# Altium footprint library Package_SO.PcbLib: 393 footprints (part 7 of 25)
Each footprint in its own frame and in the unit in brackets; x right, y up, seen from the top. Pads: shape width x height; smd on the part's side, far side on the other; paste and mask are expansions set on the pad; w line width, h text height; cw(c..) or ccw(c..) is an arc to the next point about the centre after c.
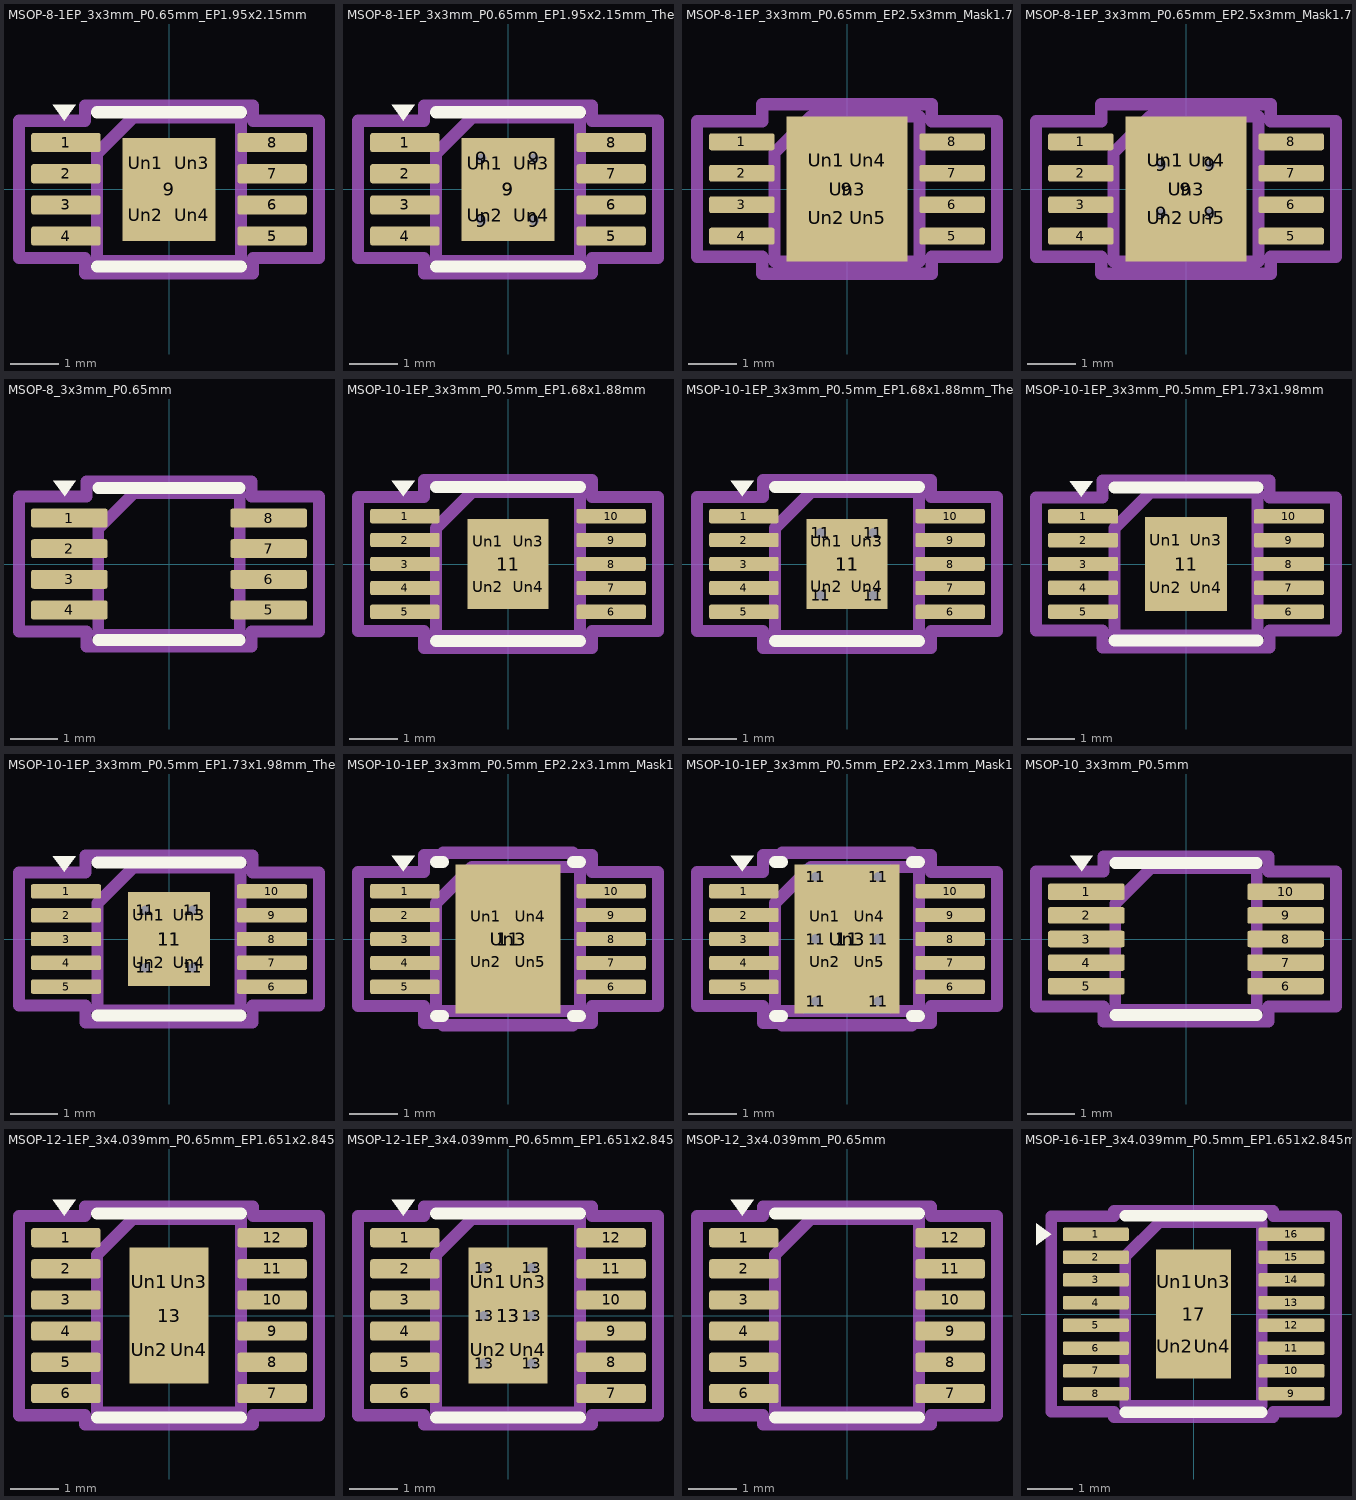
[diagram p6: the footprints below, top view; thin cyan lines are the x and y axes]

## MSOP-8-1EP_3x3mm_P0.65mm_EP1.95x2.15mm [mm]
pads (13):
  rrect25% 1.45x0.4 smd: 1(-2.15,0.975) 2(-2.15,0.325) 3(-2.15,-0.325) 4(-2.15,-0.975) 5(2.15,-0.975) 6(2.15,-0.325) 7(2.15,0.325) 8(2.15,0.975)
  rect 1.95x2.15 smd: 9(0,0)
  rrect25% 0.79x0.87 on Top Paste: Un1(-0.49,0.54) Un2(-0.49,-0.54) Un3(0.49,0.54) Un4(0.49,-0.54)
F.SilkS:
  region: -2.187,1.435 -2.428,1.765 -1.947,1.765
  lines w0.254: -1.5,-1.61 0,-1.61 1.5,-1.61 ; -1.5,1.61 0,1.61 1.5,1.61
Top Assembly:
  lines w0.254: -1.5,-1.5 1.5,-1.5 1.5,1.5 -0.75,1.5 -1.5,0.75 -1.5,-1.5
  text "'.Designator'" at -3.033,-0.628 h0.75
Top Courtyard:
  lines w0.254: -3.13,-1.43 -1.75,-1.43 -1.75,-1.75 1.75,-1.75 1.75,-1.43 3.13,-1.43 3.13,1.43 1.75,1.43 1.75,1.75 -1.75,1.75 -1.75,1.43 -3.13,1.43 -3.13,-1.43
Top Designator:
  text ".Designator" at -7.618,-0.508 h1.52

## MSOP-8-1EP_3x3mm_P0.65mm_EP1.95x2.15mm_ThermalVias [mm]
pads (18):
  rrect25% 1.45x0.4 smd: 1(-2.15,0.975) 2(-2.15,0.325) 3(-2.15,-0.325) 4(-2.15,-0.975) 5(2.15,-0.975) 6(2.15,-0.325) 7(2.15,0.325) 8(2.15,0.975)
  round 0.5 hole 0.2: 9(-0.55,-0.65) 9(-0.55,0.65) 9(0.55,-0.65) 9(0.55,0.65)
  rect 1.95x2.15 smd: 9(0,0)
  rect 1.6x1.8 smd far side: 9(0,0)
  rrect25% 0.82x0.9 on Top Paste: Un1(-0.49,0.54) Un2(-0.49,-0.54) Un3(0.49,0.54) Un4(0.49,-0.54)
F.SilkS:
  region: -2.187,1.435 -2.428,1.765 -1.947,1.765
  lines w0.254: -1.5,-1.61 0,-1.61 1.5,-1.61 ; -1.5,1.61 0,1.61 1.5,1.61
Top Assembly:
  lines w0.254: -1.5,-1.5 1.5,-1.5 1.5,1.5 -0.75,1.5 -1.5,0.75 -1.5,-1.5
  text "'.Designator'" at -3.033,-0.628 h0.75
Top Courtyard:
  lines w0.254: -3.13,-1.43 -1.75,-1.43 -1.75,-1.75 1.75,-1.75 1.75,-1.43 3.13,-1.43 3.13,1.43 1.75,1.43 1.75,1.75 -1.75,1.75 -1.75,1.43 -3.13,1.43 -3.13,-1.43
Top Designator:
  text ".Designator" at -7.618,-0.508 h1.52

## MSOP-8-1EP_3x3mm_P0.65mm_EP2.5x3mm_Mask1.73x2.36mm [mm]
pads (14):
  rrect25% 1.35x0.35 smd: 1(-2.175,0.975) 2(-2.175,0.325) 3(-2.175,-0.325) 4(-2.175,-0.975) 5(2.175,-0.975) 6(2.175,-0.325) 7(2.175,0.325) 8(2.175,0.975)
  rect 2.5x3 smd: 9(0,0)
  rrect25% 0.7x0.95 on Top Paste: Un1(-0.43,0.59) Un2(-0.43,-0.59) Un4(0.43,0.59) Un5(0.43,-0.59)
  rect 1.73x2.36 on Top Solder: Un3(0,0)
Top Assembly:
  lines w0.254: -1.5,-1.5 1.5,-1.5 1.5,1.5 -0.75,1.5 -1.5,0.75 -1.5,-1.5
  text "'.Designator'" at -3.033,-0.628 h0.75
Top Courtyard:
  lines w0.254: -3.1,-1.4 -1.75,-1.4 -1.75,-1.75 1.75,-1.75 1.75,-1.4 3.1,-1.4 3.1,1.4 1.75,1.4 1.75,1.75 -1.75,1.75 -1.75,1.4 -3.1,1.4 -3.1,-1.4
Top Designator:
  text ".Designator" at -7.618,-0.508 h1.52

## MSOP-8-1EP_3x3mm_P0.65mm_EP2.5x3mm_Mask1.73x2.36mm_ThermalVias [mm]
pads (19):
  rrect25% 1.35x0.35 smd: 1(-2.175,0.975) 2(-2.175,0.325) 3(-2.175,-0.325) 4(-2.175,-0.975) 5(2.175,-0.975) 6(2.175,-0.325) 7(2.175,0.325) 8(2.175,0.975)
  round 0.5 hole 0.2: 9(-0.5,-0.5) 9(-0.5,0.5) 9(0.5,-0.5) 9(0.5,0.5)
  rect 2.5x3 smd: 9(0,0)
  rect 1.5x1.5 smd far side: 9(0,0)
  rrect25% 0.72x0.99 on Top Paste: Un1(-0.43,0.59) Un2(-0.43,-0.59) Un4(0.43,0.59) Un5(0.43,-0.59)
  rect 1.73x2.36 on Top Solder: Un3(0,0)
Top Assembly:
  lines w0.254: -1.5,-1.5 1.5,-1.5 1.5,1.5 -0.75,1.5 -1.5,0.75 -1.5,-1.5
  text "'.Designator'" at -3.033,-0.628 h0.75
Top Courtyard:
  lines w0.254: -3.1,-1.4 -1.75,-1.4 -1.75,-1.75 1.75,-1.75 1.75,-1.4 3.1,-1.4 3.1,1.4 1.75,1.4 1.75,1.75 -1.75,1.75 -1.75,1.4 -3.1,1.4 -3.1,-1.4
Top Designator:
  text ".Designator" at -7.618,-0.508 h1.52

## MSOP-8_3x3mm_P0.65mm [mm]
pads (8):
  rrect25% 1.625x0.4 smd: 1(-2.113,0.975) 2(-2.113,0.325) 3(-2.113,-0.325) 4(-2.113,-0.975) 5(2.113,-0.975) 6(2.113,-0.325) 7(2.113,0.325) 8(2.113,0.975)
F.SilkS:
  region: -2.213,1.435 -2.452,1.765 -1.973,1.765
  lines w0.254: -1.5,-1.61 0,-1.61 1.5,-1.61 ; -1.5,1.61 0,1.61 1.5,1.61
Top Assembly:
  lines w0.254: -1.5,-1.5 1.5,-1.5 1.5,1.5 -0.75,1.5 -1.5,0.75 -1.5,-1.5
  text "'.Designator'" at -3.033,-0.628 h0.75
Top Courtyard:
  lines w0.254: -3.18,-1.43 -1.75,-1.43 -1.75,-1.75 1.75,-1.75 1.75,-1.43 3.18,-1.43 3.18,1.43 1.75,1.43 1.75,1.75 -1.75,1.75 -1.75,1.43 -3.18,1.43 -3.18,-1.43
Top Designator:
  text ".Designator" at -7.618,-0.508 h1.52

## MSOP-10-1EP_3x3mm_P0.5mm_EP1.68x1.88mm [mm]
pads (15):
  rrect25% 1.45x0.3 smd: 1(-2.15,1) 2(-2.15,0.5) 3(-2.15,0) 4(-2.15,-0.5) 5(-2.15,-1) 6(2.15,-1) 7(2.15,-0.5) 8(2.15,0) 9(2.15,0.5) 10(2.15,1)
  rect 1.68x1.88 smd: 11(0,0)
  rrect25% 0.68x0.76 on Top Paste: Un1(-0.42,0.47) Un2(-0.42,-0.47) Un3(0.42,0.47) Un4(0.42,-0.47)
F.SilkS:
  region: -2.187,1.41 -2.428,1.74 -1.947,1.74
  lines w0.254: -1.5,-1.61 0,-1.61 1.5,-1.61 ; -1.5,1.61 0,1.61 1.5,1.61
Top Assembly:
  lines w0.254: -1.5,-1.5 1.5,-1.5 1.5,1.5 -0.75,1.5 -1.5,0.75 -1.5,-1.5
  text "'.Designator'" at -3.033,-0.628 h0.75
Top Courtyard:
  lines w0.254: -3.13,-1.4 -1.75,-1.4 -1.75,-1.75 1.75,-1.75 1.75,-1.4 3.13,-1.4 3.13,1.4 1.75,1.4 1.75,1.75 -1.75,1.75 -1.75,1.4 -3.13,1.4 -3.13,-1.4
Top Designator:
  text ".Designator" at -7.618,-0.508 h1.52

## MSOP-10-1EP_3x3mm_P0.5mm_EP1.68x1.88mm_ThermalVias [mm]
pads (20):
  rrect25% 1.45x0.3 smd: 1(-2.15,1) 2(-2.15,0.5) 3(-2.15,0) 4(-2.15,-0.5) 5(-2.15,-1) 6(2.15,-1) 7(2.15,-0.5) 8(2.15,0) 9(2.15,0.5) 10(2.15,1)
  round 0.5 hole 0.2: 11(-0.55,-0.65) 11(-0.55,0.65) 11(0.55,-0.65) 11(0.55,0.65)
  rect 1.68x1.88 smd: 11(0,0)
  rect 1.6x1.8 smd far side: 11(0,0)
  rrect25% 0.7x0.79 on Top Paste: Un1(-0.42,0.47) Un2(-0.42,-0.47) Un3(0.42,0.47) Un4(0.42,-0.47)
F.SilkS:
  region: -2.187,1.41 -2.428,1.74 -1.947,1.74
  lines w0.254: -1.5,-1.61 0,-1.61 1.5,-1.61 ; -1.5,1.61 0,1.61 1.5,1.61
Top Assembly:
  lines w0.254: -1.5,-1.5 1.5,-1.5 1.5,1.5 -0.75,1.5 -1.5,0.75 -1.5,-1.5
  text "'.Designator'" at -3.033,-0.628 h0.75
Top Courtyard:
  lines w0.254: -3.13,-1.4 -1.75,-1.4 -1.75,-1.75 1.75,-1.75 1.75,-1.4 3.13,-1.4 3.13,1.4 1.75,1.4 1.75,1.75 -1.75,1.75 -1.75,1.4 -3.13,1.4 -3.13,-1.4
Top Designator:
  text ".Designator" at -7.618,-0.508 h1.52

## MSOP-10-1EP_3x3mm_P0.5mm_EP1.73x1.98mm [mm]
pads (15):
  rrect25% 1.475x0.3 smd: 1(-2.163,1) 2(-2.163,0.5) 3(-2.163,0) 4(-2.163,-0.5) 5(-2.163,-1) 6(2.163,-1) 7(2.163,-0.5) 8(2.163,0) 9(2.163,0.5) 10(2.163,1)
  rect 1.73x1.98 smd: 11(0,0)
  rrect25% 0.7x0.8 on Top Paste: Un1(-0.43,0.495) Un2(-0.43,-0.495) Un3(0.43,0.495) Un4(0.43,-0.495)
F.SilkS:
  region: -2.2,1.41 -2.44,1.74 -1.96,1.74
  lines w0.254: -1.5,-1.61 0,-1.61 1.5,-1.61 ; -1.5,1.61 0,1.61 1.5,1.61
Top Assembly:
  lines w0.254: -1.5,-1.5 1.5,-1.5 1.5,1.5 -0.75,1.5 -1.5,0.75 -1.5,-1.5
  text "'.Designator'" at -3.033,-0.628 h0.75
Top Courtyard:
  lines w0.254: -3.15,-1.4 -1.75,-1.4 -1.75,-1.75 1.75,-1.75 1.75,-1.4 3.15,-1.4 3.15,1.4 1.75,1.4 1.75,1.75 -1.75,1.75 -1.75,1.4 -3.15,1.4 -3.15,-1.4
Top Designator:
  text ".Designator" at -7.618,-0.508 h1.52

## MSOP-10-1EP_3x3mm_P0.5mm_EP1.73x1.98mm_ThermalVias [mm]
pads (20):
  rrect25% 1.475x0.3 smd: 1(-2.163,1) 2(-2.163,0.5) 3(-2.163,0) 4(-2.163,-0.5) 5(-2.163,-1) 6(2.163,-1) 7(2.163,-0.5) 8(2.163,0) 9(2.163,0.5) 10(2.163,1)
  round 0.5 hole 0.2: 11(-0.5,-0.6) 11(-0.5,0.6) 11(0.5,-0.6) 11(0.5,0.6)
  rect 1.73x1.98 smd: 11(0,0)
  rect 1.5x1.7 smd far side: 11(0,0)
  rrect25% 0.72x0.83 on Top Paste: Un1(-0.43,0.495) Un2(-0.43,-0.495) Un3(0.43,0.495) Un4(0.43,-0.495)
F.SilkS:
  region: -2.2,1.41 -2.44,1.74 -1.96,1.74
  lines w0.254: -1.5,-1.61 0,-1.61 1.5,-1.61 ; -1.5,1.61 0,1.61 1.5,1.61
Top Assembly:
  lines w0.254: -1.5,-1.5 1.5,-1.5 1.5,1.5 -0.75,1.5 -1.5,0.75 -1.5,-1.5
  text "'.Designator'" at -3.033,-0.628 h0.75
Top Courtyard:
  lines w0.254: -3.15,-1.4 -1.75,-1.4 -1.75,-1.75 1.75,-1.75 1.75,-1.4 3.15,-1.4 3.15,1.4 1.75,1.4 1.75,1.75 -1.75,1.75 -1.75,1.4 -3.15,1.4 -3.15,-1.4
Top Designator:
  text ".Designator" at -7.618,-0.508 h1.52

## MSOP-10-1EP_3x3mm_P0.5mm_EP2.2x3.1mm_Mask1.83x1.89mm [mm]
pads (16):
  rrect25% 1.45x0.3 smd: 1(-2.15,1) 2(-2.15,0.5) 3(-2.15,0) 4(-2.15,-0.5) 5(-2.15,-1) 6(2.15,-1) 7(2.15,-0.5) 8(2.15,0) 9(2.15,0.5) 10(2.15,1)
  rect 2.2x3.1 smd: 11(0,0)
  rrect25% 0.74x0.76 on Top Paste: Un1(-0.46,0.47) Un2(-0.46,-0.47) Un4(0.46,0.47) Un5(0.46,-0.47)
  rect 1.83x1.89 on Top Solder: Un3(0,0)
F.SilkS:
  region: -2.187,1.41 -2.428,1.74 -1.947,1.74
  lines w0.254: -1.5,-1.61 -1.353,-1.61 ; -1.5,1.61 -1.353,1.61 ; 1.353,-1.61 1.5,-1.61 ; 1.353,1.61 1.5,1.61
Top Assembly:
  lines w0.254: -1.5,-1.5 1.5,-1.5 1.5,1.5 -0.75,1.5 -1.5,0.75 -1.5,-1.5
  text "'.Designator'" at -3.033,-0.628 h0.75
Top Courtyard:
  lines w0.254: -3.13,-1.4 -1.75,-1.4 -1.75,-1.75 -1.35,-1.75 -1.35,-1.8 1.35,-1.8 1.35,-1.75 1.75,-1.75 1.75,-1.4 3.13,-1.4 3.13,1.4 1.75,1.4 1.75,1.75 1.35,1.75 1.35,1.8 -1.35,1.8 -1.35,1.75 -1.75,1.75 -1.75,1.4 -3.13,1.4 -3.13,-1.4
Top Designator:
  text ".Designator" at -7.618,-0.508 h1.52

## MSOP-10-1EP_3x3mm_P0.5mm_EP2.2x3.1mm_Mask1.83x1.89mm_ThermalVias [mm]
pads (23):
  rrect25% 1.45x0.3 smd: 1(-2.15,1) 2(-2.15,0.5) 3(-2.15,0) 4(-2.15,-0.5) 5(-2.15,-1) 6(2.15,-1) 7(2.15,-0.5) 8(2.15,0) 9(2.15,0.5) 10(2.15,1)
  round 0.5 hole 0.2: 11(-0.65,-1.3) 11(-0.65,0) 11(-0.65,1.3) 11(0.65,-1.3) 11(0.65,0) 11(0.65,1.3)
  rect 2.2x3.1 smd: 11(0,0)
  rect 1.8x3.1 smd far side: 11(0,0)
  rrect25% 0.74x0.76 on Top Paste: Un1(-0.46,0.47) Un2(-0.46,-0.47) Un4(0.46,0.47) Un5(0.46,-0.47)
  rect 1.83x1.89 on Top Solder: Un3(0,0)
F.SilkS:
  region: -2.187,1.41 -2.428,1.74 -1.947,1.74
  lines w0.254: -1.5,-1.61 -1.353,-1.61 ; -1.5,1.61 -1.353,1.61 ; 1.353,-1.61 1.5,-1.61 ; 1.353,1.61 1.5,1.61
Top Assembly:
  lines w0.254: -1.5,-1.5 1.5,-1.5 1.5,1.5 -0.75,1.5 -1.5,0.75 -1.5,-1.5
  text "'.Designator'" at -3.033,-0.628 h0.75
Top Courtyard:
  lines w0.254: -3.13,-1.4 -1.75,-1.4 -1.75,-1.75 -1.35,-1.75 -1.35,-1.8 1.35,-1.8 1.35,-1.75 1.75,-1.75 1.75,-1.4 3.13,-1.4 3.13,1.4 1.75,1.4 1.75,1.75 1.35,1.75 1.35,1.8 -1.35,1.8 -1.35,1.75 -1.75,1.75 -1.75,1.4 -3.13,1.4 -3.13,-1.4
Top Designator:
  text ".Designator" at -7.618,-0.508 h1.52

## MSOP-10_3x3mm_P0.5mm [mm]
pads (10):
  rrect25% 1.625x0.35 smd: 1(-2.113,1) 2(-2.113,0.5) 3(-2.113,0) 4(-2.113,-0.5) 5(-2.113,-1) 6(2.113,-1) 7(2.113,-0.5) 8(2.113,0) 9(2.113,0.5) 10(2.113,1)
F.SilkS:
  region: -2.213,1.435 -2.452,1.765 -1.973,1.765
  lines w0.254: -1.5,-1.61 0,-1.61 1.5,-1.61 ; -1.5,1.61 0,1.61 1.5,1.61
Top Assembly:
  lines w0.254: -1.5,-1.5 1.5,-1.5 1.5,1.5 -0.75,1.5 -1.5,0.75 -1.5,-1.5
  text "'.Designator'" at -3.033,-0.628 h0.75
Top Courtyard:
  lines w0.254: -3.18,-1.43 -1.75,-1.43 -1.75,-1.75 1.75,-1.75 1.75,-1.43 3.18,-1.43 3.18,1.43 1.75,1.43 1.75,1.75 -1.75,1.75 -1.75,1.43 -3.18,1.43 -3.18,-1.43
Top Designator:
  text ".Designator" at -7.618,-0.508 h1.52

## MSOP-12-1EP_3x4.039mm_P0.65mm_EP1.651x2.845mm [mm]
pads (17):
  rrect25% 1.45x0.4 smd: 1(-2.15,1.625) 2(-2.15,0.975) 3(-2.15,0.325) 4(-2.15,-0.325) 5(-2.15,-0.975) 6(-2.15,-1.625) 7(2.15,-1.625) 8(2.15,-0.975) 9(2.15,-0.325) 10(2.15,0.325) 11(2.15,0.975) 12(2.15,1.625)
  rect 1.651x2.845 smd: 13(0,0)
  rrect25% 0.67x1.15 on Top Paste: Un1(-0.415,0.71) Un2(-0.415,-0.71) Un3(0.415,0.71) Un4(0.415,-0.71)
F.SilkS:
  region: -2.187,2.085 -2.428,2.415 -1.947,2.415
  lines w0.254: -1.5,-2.13 0,-2.13 1.5,-2.13 ; -1.5,2.13 0,2.13 1.5,2.13
Top Assembly:
  lines w0.254: -1.5,-2.02 1.5,-2.02 1.5,2.02 -0.75,2.02 -1.5,1.269 -1.5,-2.02
  text "'.Designator'" at -3.033,-0.628 h0.75
Top Courtyard:
  lines w0.254: -3.13,-2.08 -1.75,-2.08 -1.75,-2.27 1.75,-2.27 1.75,-2.08 3.13,-2.08 3.13,2.08 1.75,2.08 1.75,2.27 -1.75,2.27 -1.75,2.08 -3.13,2.08 -3.13,-2.08
Top Designator:
  text ".Designator" at -7.618,-0.499 h1.52

## MSOP-12-1EP_3x4.039mm_P0.65mm_EP1.651x2.845mm_ThermalVias [mm]
pads (24):
  rrect25% 1.45x0.4 smd: 1(-2.15,1.625) 2(-2.15,0.975) 3(-2.15,0.325) 4(-2.15,-0.325) 5(-2.15,-0.975) 6(-2.15,-1.625) 7(2.15,-1.625) 8(2.15,-0.975) 9(2.15,-0.325) 10(2.15,0.325) 11(2.15,0.975) 12(2.15,1.625)
  round 0.5 hole 0.2: 13(-0.5,-1) 13(-0.5,0) 13(-0.5,1) 13(0.5,-1) 13(0.5,0) 13(0.5,1)
  rect 1.651x2.845 smd: 13(0,0)
  rect 1.5x2.5 smd far side: 13(0,0)
  rrect25% 0.69x1.19 on Top Paste: Un1(-0.415,0.71) Un2(-0.415,-0.71) Un3(0.415,0.71) Un4(0.415,-0.71)
F.SilkS:
  region: -2.187,2.085 -2.428,2.415 -1.947,2.415
  lines w0.254: -1.5,-2.13 0,-2.13 1.5,-2.13 ; -1.5,2.13 0,2.13 1.5,2.13
Top Assembly:
  lines w0.254: -1.5,-2.02 1.5,-2.02 1.5,2.02 -0.75,2.02 -1.5,1.269 -1.5,-2.02
  text "'.Designator'" at -3.033,-0.628 h0.75
Top Courtyard:
  lines w0.254: -3.13,-2.08 -1.75,-2.08 -1.75,-2.27 1.75,-2.27 1.75,-2.08 3.13,-2.08 3.13,2.08 1.75,2.08 1.75,2.27 -1.75,2.27 -1.75,2.08 -3.13,2.08 -3.13,-2.08
Top Designator:
  text ".Designator" at -7.618,-0.499 h1.52

## MSOP-12_3x4.039mm_P0.65mm [mm]
pads (12):
  rrect25% 1.45x0.4 smd: 1(-2.15,1.625) 2(-2.15,0.975) 3(-2.15,0.325) 4(-2.15,-0.325) 5(-2.15,-0.975) 6(-2.15,-1.625) 7(2.15,-1.625) 8(2.15,-0.975) 9(2.15,-0.325) 10(2.15,0.325) 11(2.15,0.975) 12(2.15,1.625)
F.SilkS:
  region: -2.187,2.085 -2.428,2.415 -1.947,2.415
  lines w0.254: -1.5,-2.13 0,-2.13 1.5,-2.13 ; -1.5,2.13 0,2.13 1.5,2.13
Top Assembly:
  lines w0.254: -1.5,-2.02 1.5,-2.02 1.5,2.02 -0.75,2.02 -1.5,1.269 -1.5,-2.02
  text "'.Designator'" at -3.033,-0.628 h0.75
Top Courtyard:
  lines w0.254: -3.13,-2.08 -1.75,-2.08 -1.75,-2.27 1.75,-2.27 1.75,-2.08 3.13,-2.08 3.13,2.08 1.75,2.08 1.75,2.27 -1.75,2.27 -1.75,2.08 -3.13,2.08 -3.13,-2.08
Top Designator:
  text ".Designator" at -7.618,-0.499 h1.52

## MSOP-16-1EP_3x4.039mm_P0.5mm_EP1.651x2.845mm [mm]
pads (21):
  rrect25% 1.45x0.3 smd: 1(-2.15,1.75) 2(-2.15,1.25) 3(-2.15,0.75) 4(-2.15,0.25) 5(-2.15,-0.25) 6(-2.15,-0.75) 7(-2.15,-1.25) 8(-2.15,-1.75) 9(2.15,-1.75) 10(2.15,-1.25) 11(2.15,-0.75) 12(2.15,-0.25) 13(2.15,0.25) 14(2.15,0.75) 15(2.15,1.25) 16(2.15,1.75)
  rect 1.651x2.845 smd: 17(0,0)
  rrect25% 0.69x1.19 on Top Paste: Un1(-0.415,0.71) Un2(-0.415,-0.71) Un3(0.415,0.71) Un4(0.415,-0.71)
F.SilkS:
  region: -3.135,1.75 -3.465,1.51 -3.465,1.99
  lines w0.254: -1.5,-2.16 0,-2.16 1.5,-2.16 ; -1.5,2.16 0,2.16 1.5,2.16
Top Assembly:
  lines w0.254: -1.5,-2.02 1.5,-2.02 1.5,2.02 -0.75,2.02 -1.5,1.269 -1.5,-2.02
  text "'.Designator'" at -3.033,-0.628 h0.75
Top Courtyard:
  lines w0.254: -3.13,-2.15 -1.75,-2.15 -1.75,-2.27 1.75,-2.27 1.75,-2.15 3.13,-2.15 3.13,2.15 1.75,2.15 1.75,2.27 -1.75,2.27 -1.75,2.15 -3.13,2.15 -3.13,-2.15
Top Designator:
  text ".Designator" at -7.722,-0.508 h1.52